# Altium schematic symbol library RJE561881410.SchLib: 1 symbol
Pins are listed as number, name and electrical type; pins without a type are passive.

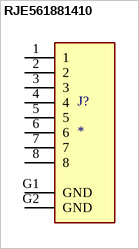
[diagram p0: symbol RJE561881410]

## RJE561881410
designator J?
Modular Jack - Right Angle, Input Output Connectors 8P8C, Without Shield .; MF: Amphenol Commercial Products; MP: RJE561881410; SnapEDA_Link: https://www.snapeda.com/parts/RJE561881410/Amphenol/view-part/?ref=snap; Package: None; Value: *; Check_prices: https://www.snapeda.com/parts/RJE561881410/Amphenol/view-part/?ref=eda
footprint AMPHENOL_RJE561881410
pins: 1, 2, 3, 4, 5, 6, 7, 8, G1 GND, G2 GND